# Altium integrated library EEEFN1E101UP.IntLib: 1 symbol
Pins are listed as number, name and electrical type; pins without a type are passive.

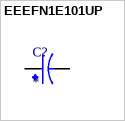
[diagram p0: symbol EEEFN1E101UP]

## EEEFN1E101UP
designator C?
CAP ALUM 100UF 20% 25V SMD; MF: Panasonic; MP: EEEFN1E101UP; SnapEDA_Link: https://www.snapeda.com/parts/EEEFN1E101UP/Panasonic/view-part/?ref=snap; Package: RADIAL-2 Panasonic; Value: *; Check_prices: https://www.snapeda.com/parts/EEEFN1E101UP/Panasonic/view-part/?ref=eda
footprint CAP_EEEFN1E101UP
pins: 1, 2